# EAGLE library part 1040310811 (library bc_custom)
CONN MICRO SD CARD PUSH-PULL R/A
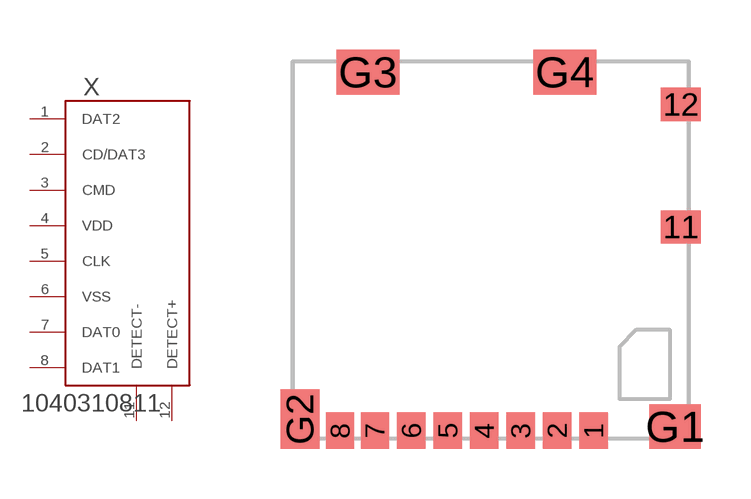
[diagram p1: symbol with the pads of 1040310811; footprint 1040310811]

Designator prefix X

## 1040310811  [1040310811]
1  DAT2
2  CD/DAT3
3  CMD
4  VDD
5  CLK
6  VSS
7  DAT0
8  DAT1
11  DETECT-
12  DETECT+

## Footprint 1040310811 (pad centres in mm)
smd 0.85 x 1.1: 1 3.105,0.25; 2 2.005,0.25; 3 0.905,0.25; 4 -0.195,0.25; 5 -1.295,0.25; 6 -2.395,0.25; 7 -3.495,0.25; 8 -4.545,0.25
smd 1.2 x 1: 11 5.74,6.4; 12 5.74,10.1
smd 1.55 x 1.35: G1 5.565,0.375
smd 1.17 x 1.8: G2 -5.755,0.6
smd 1.9 x 1.35: G3 -3.7,11.075; G4 2.24,11.075